# Altium footprint library LME49726.PcbLib: 1 footprints
Each footprint in its own frame and in the unit in brackets; x right, y up, seen from the top. Pads: shape width x height; smd on the part's side, far side on the other; paste and mask are expansions set on the pad; w line width, h text height; cw(c..) or ccw(c..) is an arc to the next point about the centre after c.
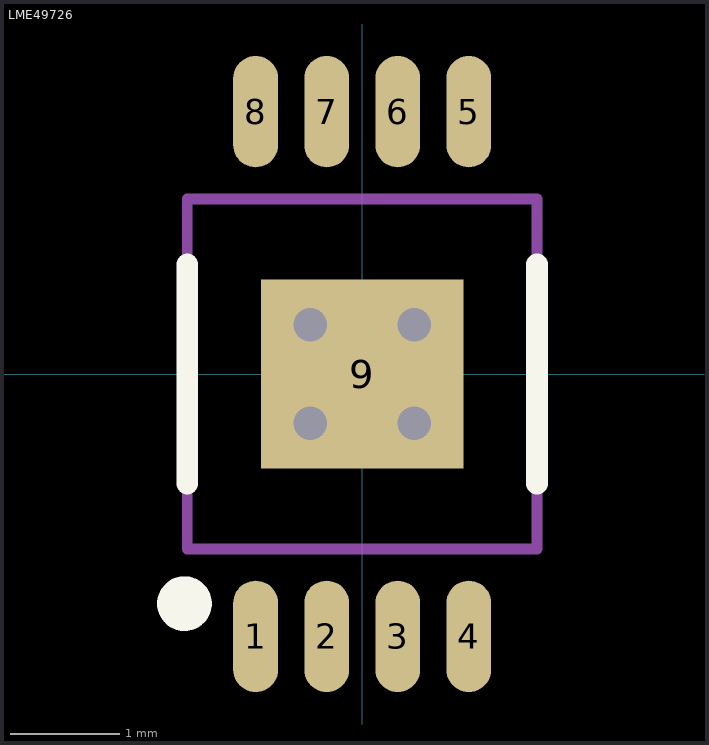
[diagram p0: the footprint, top view; thin cyan lines are the x and y axes]

## LME49726 [mm]
pads (9):
  oval 0.41x1.02 smd: 1(-0.975,-2.4) 2(-0.325,-2.4) 3(0.325,-2.4) 4(0.975,-2.4) 5(0.975,2.4) 6(0.325,2.4) 7(-0.325,2.4) 8(-0.975,2.4)
  rect 1.85x1.73 smd: 9(0,0)
via 0.475,-0.45 diameter 0.406 hole 0.305
via -0.475,-0.45 diameter 0.406 hole 0.305
via 0.475,0.45 diameter 0.406 hole 0.305
via -0.475,0.45 diameter 0.406 hole 0.305
Top Overlay:
  circle w0.25: c-1.625,-2.1 r0.125
  lines w0.2: -1.6,-1 -1.6,1 ; 1.6,-1 1.6,1
Mechanical 1:
  lines w0.1: -1.6,-1.6 -1.6,1.6 1.6,1.6 1.6,-1.6 -1.6,-1.6
3D body: height 0.86, standoff 0.06, extent -1.6,-1.6 1.6,1.6